# EAGLE library part ACS710_CURRENT_SENSOR (library project_specific_parts)
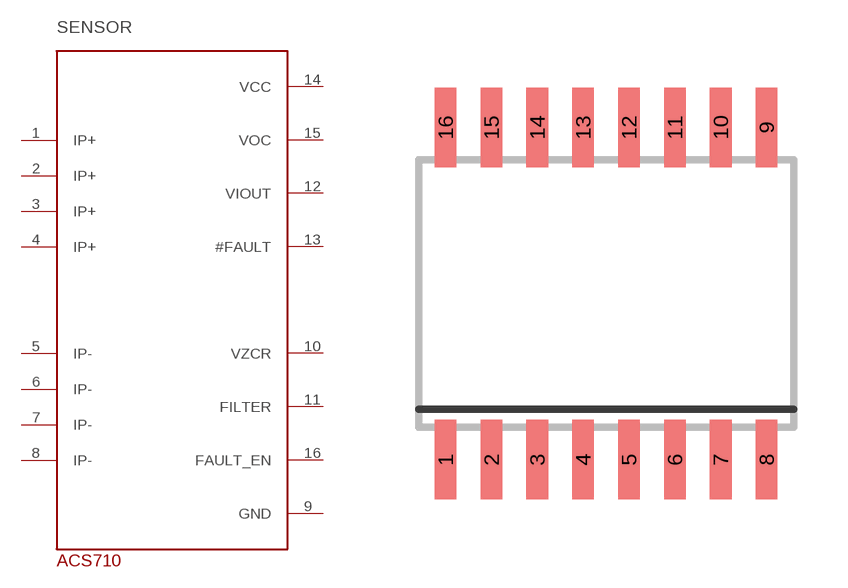
[diagram p1: symbol with the pads of SO-16W; footprint SO-16W]

Designator prefix SENSOR

## ACS710_CURRENT_SENSOR  [SO-16W]
1  IP+
2  IP+
3  IP+
4  IP+
5  IP-
6  IP-
7  IP-
8  IP-
9  GND
10  VZCR
11  FILTER
12  VIOUT
13  #FAULT
14  VCC
15  VOC
16  FAULT_EN

## Footprint SO-16W (pad centres in mm)
16-Lead (Wide Body) Small Outline Package (R-16) Source: http://www.analog.com/UploadedFiles/Data_Sheets/409317160AD421_c.pdf
smd 0.6 x 2.2: 1 -4.445,-4.6; 2 -3.175,-4.6; 3 -1.905,-4.6; 4 -0.635,-4.6; 5 0.635,-4.6; 6 1.905,-4.6; 7 3.175,-4.6; 8 4.445,-4.6; 9 4.445,4.6; 10 3.175,4.6; 11 1.905,4.6; 12 0.635,4.6; 13 -0.635,4.6; 14 -1.905,4.6; 15 -3.175,4.6; 16 -4.445,4.6